# Altium schematic symbol library MeteoStationNucleo.SchLib: 3 symbols
Pins are listed as number, name and electrical type; pins without a type are passive.

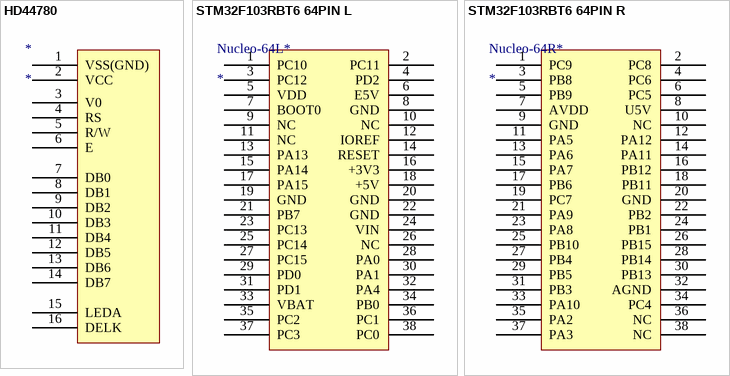
[diagram p0: symbols HD44780 to STM32F103RBT6 64PIN R]

## HD44780
designator *
pins: 1 VSS(GND), 2 VCC, 3 V0, 4 RS, 5 R/W, 6 E, 7 DB0, 8 DB1, 9 DB2, 10 DB3, 11 DB4, 12 DB5, 13 DB6, 14 DB7, 15 LEDA, 16 DELK

## STM32F103RBT6 64PIN L
designator Nucleo-64L*
Left side
pins: 1 PC10, 2 PC11, 3 PC12, 4 PD2, 5 VDD, 6 E5V, 7 BOOT0, 8 GND, 9 NC, 10 NC, 11 NC, 12 IOREF, 13 PA13, 14 RESET, 15 PA14, 16 +3V3, 17 PA15, 18 +5V, 19 GND, 20 GND, 21 PB7, 22 GND, 23 PC13, 24 VIN, 25 PC14, 26 NC, 27 PC15, 28 PA0, 29 PD0, 30 PA1, 31 PD1, 32 PA4, 33 VBAT, 34 PB0, 35 PC2, 36 PC1, 37 PC3, 38 PC0

## STM32F103RBT6 64PIN R
designator Nucleo-64R*
Right side
pins: 1 PC9, 2 PC8, 3 PB8, 4 PC6, 5 PB9, 6 PC5, 7 AVDD, 8 U5V, 9 GND, 10 NC, 11 PA5, 12 PA12, 13 PA6, 14 PA11, 15 PA7, 16 PB12, 17 PB6, 18 PB11, 19 PC7, 20 GND, 21 PA9, 22 PB2, 23 PA8, 24 PB1, 25 PB10, 26 PB15, 27 PB4, 28 PB14, 29 PB5, 30 PB13, 31 PB3, 32 AGND, 33 PA10, 34 PC4, 35 PA2, 36 NC, 37 PA3, 38 NC